# Altium integrated library MK20DX256VLH7.IntLib: 1 symbol
Pins are listed as number, name and electrical type; pins without a type are passive.

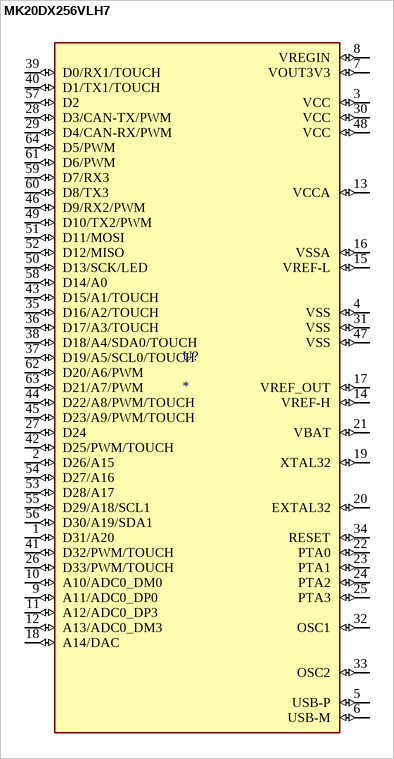
[diagram p0: symbol MK20DX256VLH7]

## MK20DX256VLH7
designator U?
ARMÂ®CortexÂ®-M4Kinetis K20å¾®æŽ§åˆ¶å™¨IC 32ä½72MHz 256KBï¼ˆ256K x 8ï¼‰FLASH 64-LQFPï¼ˆ10x10ï¼‰; MP: MK20DX256VLH7; MF: NXP USA; Package: LQFP-64 NXP Semiconductors; Availability: Unavailable; SnapEDA_Link: https://www.snapeda.com/parts/MK20DX256VLH7/NXP%20USA%20Inc./view-part/625714/?ref=snap; Price: None; Value: *
footprint QFP50P1200X1200X160-64N
pins: 1 D31/A20 (io), 2 D26/A15 (io), 3 VCC (io), 4 VSS (io), 5 USB-P (io), 6 USB-M (io), 7 VOUT3V3 (io), 8 VREGIN (io), 9 A11/ADC0_DP0 (io), 10 A10/ADC0_DM0 (io), 11 A12/ADC0_DP3 (io), 12 A13/ADC0_DM3 (io), 13 VCCA (io), 14 VREF-H (io), 15 VREF-L (io), 16 VSSA (io), 17 VREF_OUT (io), 18 A14/DAC (io), 19 XTAL32 (io), 20 EXTAL32 (io), 21 VBAT (io), 22 PTA0 (io), 23 PTA1 (io), 24 PTA2 (io), 25 PTA3 (io), 26 D33/PWM/TOUCH (io), 27 D24 (io), 28 D3/CAN-TX/PWM (io), 29 D4/CAN-RX/PWM (io), 30 VCC (io), 31 VSS (io), 32 OSC1 (io), 33 OSC2 (io), 34 RESET (io), 35 D16/A2/TOUCH (io), 36 D17/A3/TOUCH (io), 37 D19/A5/SCL0/TOUCH (io), 38 D18/A4/SDA0/TOUCH (io), 39 D0/RX1/TOUCH (io), 40 D1/TX1/TOUCH (io), 41 D32/PWM/TOUCH (io), 42 D25/PWM/TOUCH (io), 43 D15/A1/TOUCH (io), 44 D22/A8/PWM/TOUCH (io), 45 D23/A9/PWM/TOUCH (io), 46 D9/RX2/PWM (io), 47 VSS (io), 48 VCC (io), 49 D10/TX2/PWM (io), 50 D13/SCK/LED (io), 51 D11/MOSI (io), 52 D12/MISO (io), 53 D28/A17 (io), 54 D27/A16 (io), 55 D29/A18/SCL1 (io), 56 D30/A19/SDA1 (io), 57 D2 (io), 58 D14/A0 (io), 59 D7/RX3 (io), 60 D8/TX3 (io), 61 D6/PWM (io), 62 D20/A6/PWM (io), 63 D21/A7/PWM (io), 64 D5/PWM (io)